# Altium footprint library packages.PcbLib: 36 footprints (part 3 of 3)
Each footprint in its own frame and in the unit in brackets; x right, y up, seen from the top. Pads: shape width x height; smd on the part's side, far side on the other; paste and mask are expansions set on the pad; w line width, h text height; cw(c..) or ccw(c..) is an arc to the next point about the centre after c.
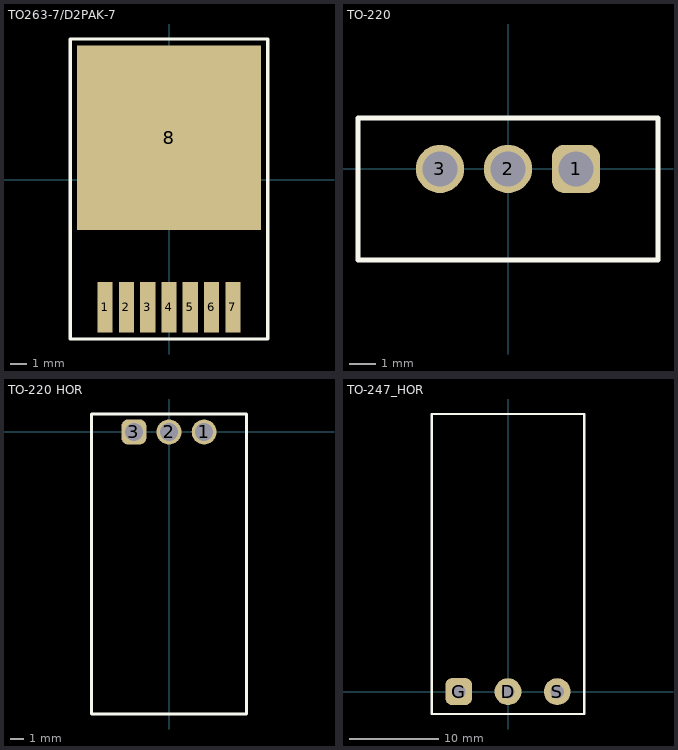
[diagram p2: the footprints below, top view; thin cyan lines are the x and y axes]

## TO263-7/D2PAK-7 [mm] "TO263/D2PAK package, 7 pins version"
height 4.6
pads (8):
  rect 0.9x3 smd mask+0.1: 1(-3.81,-7.6) 2(-2.54,-7.6) 3(-1.27,-7.6) 4(0,-7.6) 5(1.27,-7.6) 6(2.54,-7.6) 7(3.81,-7.6)
  rect 11x11 smd mask+0.1: 8(0,2.5)
Top Overlay:
  lines w0.2: -5.9,-9.5 5.9,-9.5 5.9,8.4 -5.9,8.4 -5.9,-9.5
3D body "TO263-7-1.stp": height 4.22, standoff 0, extent -4.911,-8.6 4.911,6.451

## TO-220 [mm] "TO-220 package"
height 2.4
pads (3):
  rrect50% 1.8x1.8 hole 1.3: 1(2.54,0)
  round 1.8 hole 1.3: 2(0,0) 3(-2.54,0)
Top Overlay:
  lines w0.2: -5.6,-3.4 -5.6,1.9 5.6,1.9 5.6,-3.4 -5.6,-3.4
3D body "TO-220_vertical_line.stp": height 20, standoff -2, extent -5.25,-3.05 5.25,1.6

## TO-220 HOR [mm] "TO-220 package"
height 2.4
pads (3):
  round 1.8 hole 1.3: 1(2.54,0) 2(0,0)
  rrect50% 1.8x1.8 hole 1.3: 3(-2.54,0)
Top Overlay:
  lines w0.2: -5.6,-20.4 5.6,-20.4 5.6,1.3 -5.6,1.3 -5.6,-20.4
3D body "TO-220_horizontal_line.stp": height 4.65, standoff -3, extent -5.25,-20.05 5.25,0.2

## TO-247_HOR [mm]
pads (3):
  round 3 hole 1.5: D(0,0) S(5.5,0)
  rrect50% 3x3 hole 1.5: G(-5.5,0)
Top Overlay:
  lines w0.254: -8.5,-2.5 -8.5,31 8.5,31 8.5,-2.5 -8.5,-2.5
3D body "TO-247_horizontal_line.stp": height 5, standoff -3, extent -7.8,-0.3 7.8,30.3